# EAGLE library part 750051915 (library Wurth Electronics Midcom Inc V1-0)
Package Style: Speedy EP13 SMD Mounting: SMD Pins: 10 pins Bobbin: 070-2381 Website: Wurth Electronics Midcom <http://www.we-online.com/midcom> Contact us Wurth Electronics Midcom, Inc. 121 Airport Dr. Watertown, SD 57201 Phone: (605) 886-4385 Fax: (605) 886-4486 E-Mail: midcom@we-online.com
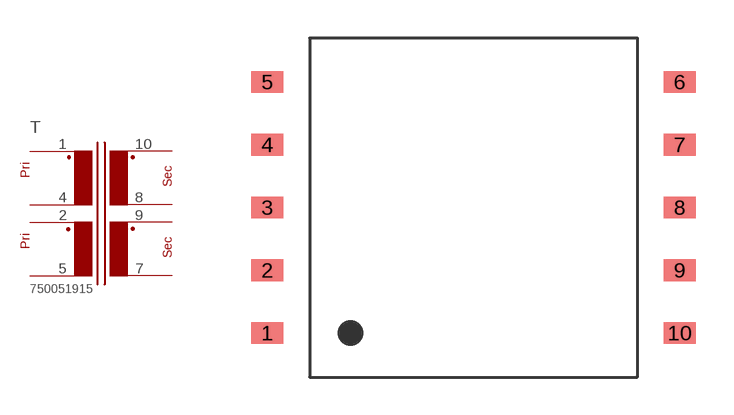
[diagram p35: symbol with the pads of 00SPEEDY_EP13_SMD_10PIN; footprint 00SPEEDY_EP13_SMD_10PIN]

Designator prefix T

## 750051915  [00SPEEDY_EP13_SMD_10PIN]
1  5  pas
2  3  pas
4  4  pas
5  2  pas
7  8  pas
8  10  pas
9  9  pas
10  1  pas

## Footprint 00SPEEDY_EP13_SMD_10PIN (pad centres in mm)
Package Style: Speedy EP13 Mounting: SMD Pins: 10 pins Bobbin: 070-2381
smd 1.27 x 0.864: 1 -8.179,-4.978; 2 -8.179,-2.489; 3 -8.179,0; 4 -8.179,2.489; 5 -8.179,4.978; 6 8.179,4.978; 7 8.179,2.489; 8 8.179,0; 9 8.179,-2.489; 10 8.179,-4.978